# Altium footprint library B2B-XH-A.PcbLib: 1 footprints
Each footprint in its own frame and in the unit in brackets; x right, y up, seen from the top. Pads: shape width x height; smd on the part's side, far side on the other; paste and mask are expansions set on the pad; w line width, h text height; cw(c..) or ccw(c..) is an arc to the next point about the centre after c.
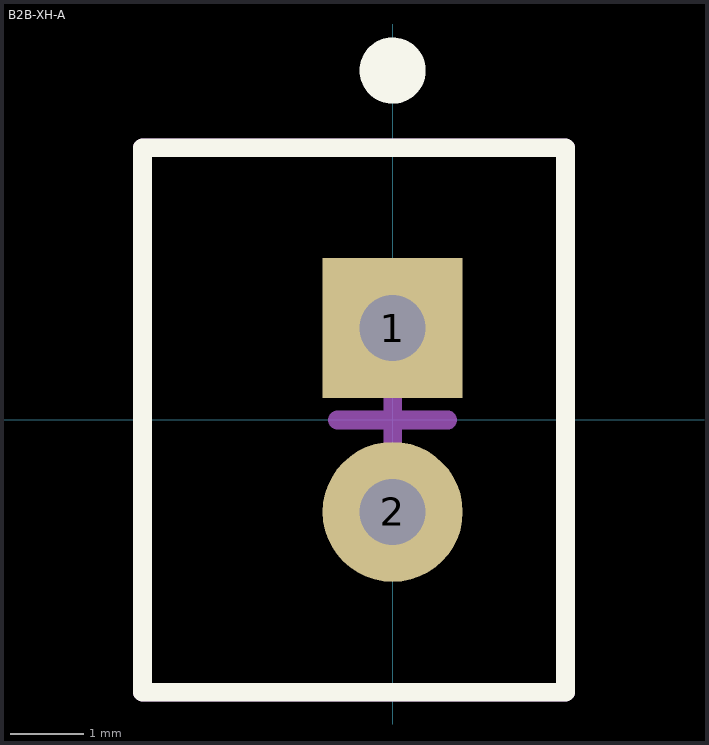
[diagram p0: the footprint, top view; thin cyan lines are the x and y axes]

## B2B-XH-A [mm]
pads (2):
  rect 1.905x1.905 hole 0.9 mask+0.051: 1(0,1.25)
  round 1.905 hole 0.9 mask+0.051: 2(0,-1.25)
Top Overlay:
  circle w0.5: c0,4.75 r0.2
  lines w0.254: -3.4,-3.7 -3.4,3.7 2.35,3.7 2.35,-3.7 -3.4,-3.7
Mechanical 13:
  lines w0.254: -3.4,-3.7 2.35,-3.7 2.35,3.7 -3.4,3.7 -3.4,-3.7
Mechanical 15:
  lines w0.254: -0.75,0 0.75,0 ; 0,-0.75 0,0.75
3D body "B2B-XH-A.STEP": height 7, standoff -3.4, extent -3.375,-3.7 2.375,3.7